# Altium footprint library rcl.PCBLIB: 487 footprints (part 25 of 31)
Each footprint in its own frame and in the unit in brackets; x right, y up, seen from the top. Pads: shape width x height; smd on the part's side, far side on the other; paste and mask are expansions set on the pad; w line width, h text height; cw(c..) or ccw(c..) is an arc to the next point about the centre after c.
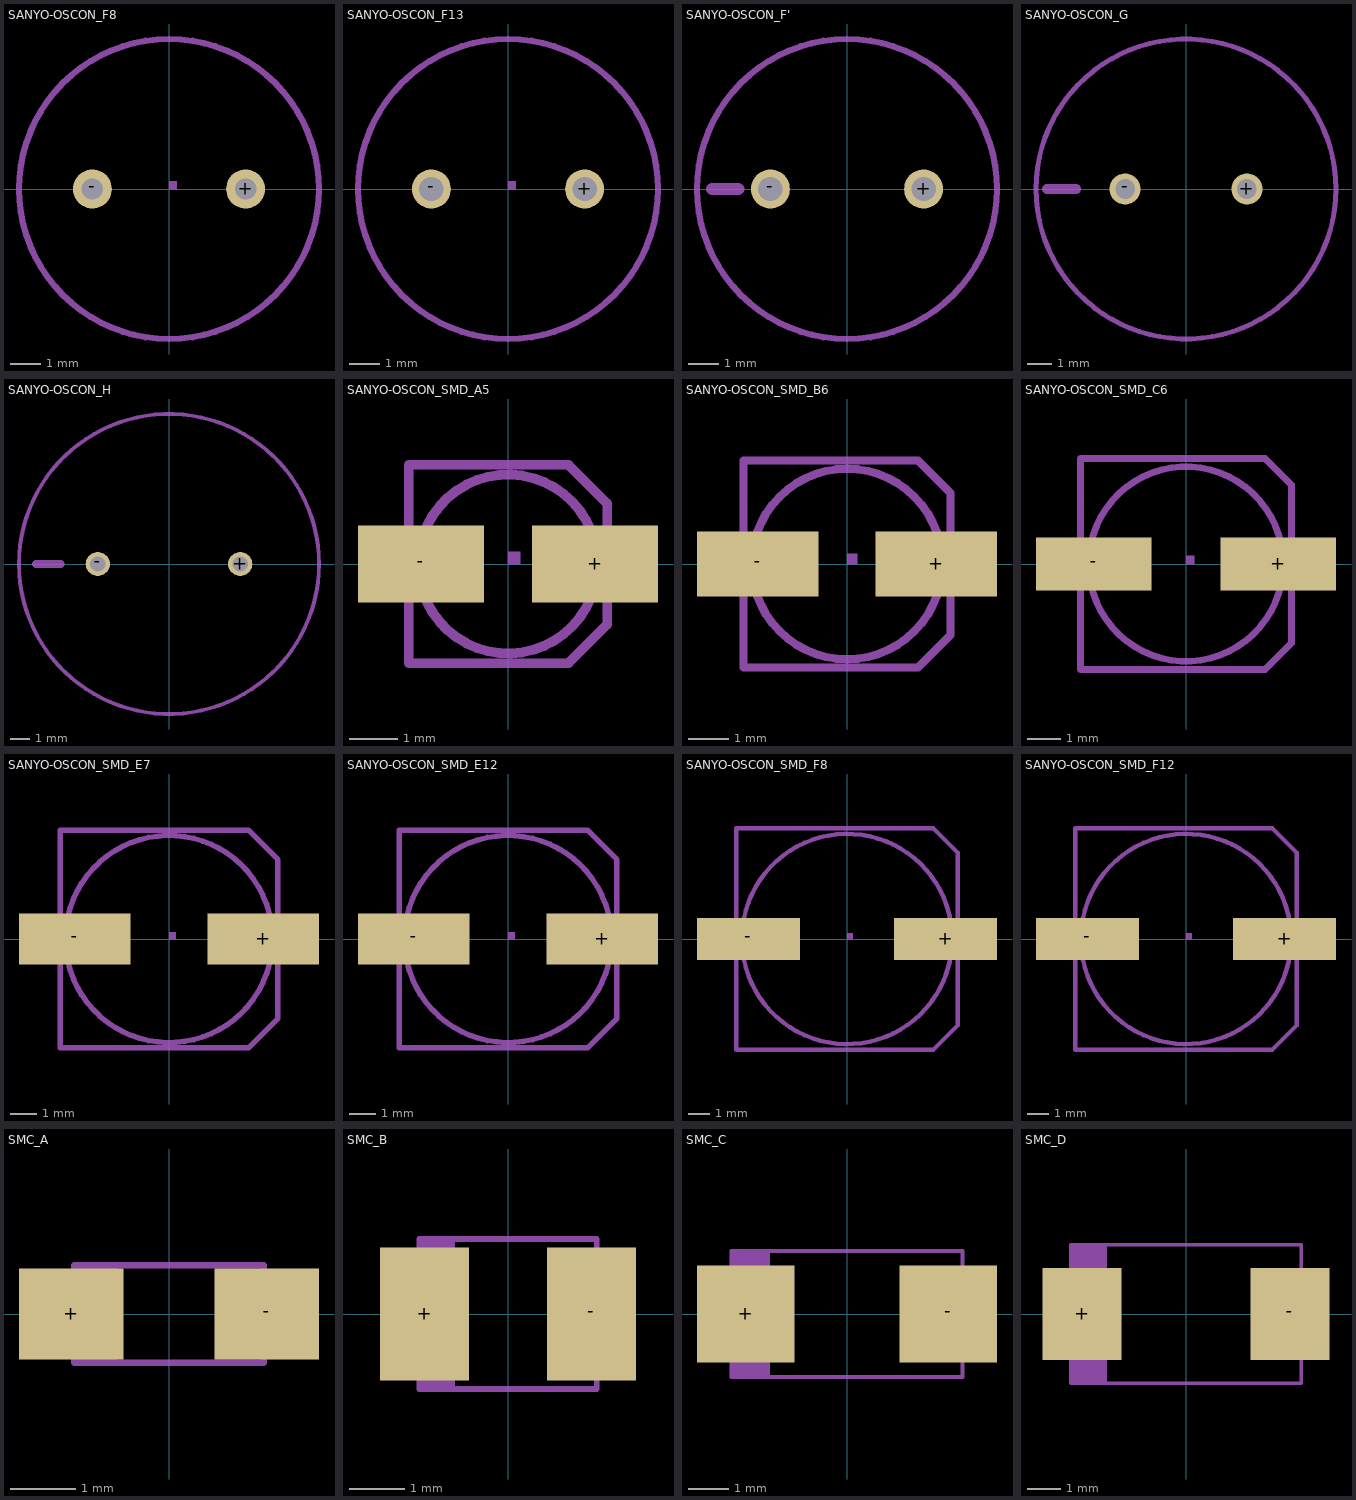
[diagram p24: the footprints below, top view; thin cyan lines are the x and y axes]

## SANYO-OSCON_F8 [mil]
pads (2):
  round 50 hole 27.56: +(98.43,0) -(-98.43,0)
Mechanical 2:
  circle w8: c0,0 r192.91
  region: 0,0 10,0 10,10 0,10

## SANYO-OSCON_F13 [mil]
pads (2):
  round 50 hole 31.5: +(98.43,0) -(-98.43,0)
Mechanical 2:
  circle w8: c0,0 r192.91
  region: 0,0 10,0 10,10 0,10

## SANYO-OSCON_F' [mil]
pads (2):
  round 50 hole 31.5: +(98.43,0) -(-98.43,0)
Mechanical 2:
  circle w8: c0,0 r192.92
  lines w16: -173.23,0 -139.76,0

## SANYO-OSCON_G [mil]
pads (2):
  round 50 hole 31.5: +(98.43,0) -(-98.43,0)
Mechanical 2:
  circle w8: c0,0 r242.13
  lines w16: -224.41,0 -177.17,0

## SANYO-OSCON_H [mil]
pads (2):
  round 50 hole 31.5: +(147.64,0) -(-147.64,0)
Mechanical 2:
  circle w8: c0,0 r311.03
  lines w16: -275.59,0 -224.41,0

## SANYO-OSCON_SMD_A5 [mil]
pads (2):
  rect 102.36x62.99 smd: +(70.87,0) -(-70.87,0)
Mechanical 2:
  lines w8: -80.71,-80.71 49.21,-80.71 80.71,-49.21 ; -80.71,80.71 49.21,80.71 80.71,49.21
Mechanical 18:
  circle w8: c0,0 r72.83
  region: 0,0 10,0 10,10 0,10
  lines w8: -80.71,-80.71 -80.71,80.71 ; 80.71,-49.21 80.71,49.21

## SANYO-OSCON_SMD_B6 [mm]
pads (2):
  rect 3x1.6 smd: +(2.2,0) -(-2.2,0)
Mechanical 2:
  lines w0.203: -2.55,-2.55 1.75,-2.55 2.55,-1.75 ; -2.55,2.55 1.75,2.55 2.55,1.75
Mechanical 18:
  circle w0.203: c0,0 r2.35
  region: 0,0 0.254,0 0.254,0.254 0,0.254
  lines w0.203: -2.55,-2.55 -2.55,2.55 ; 2.55,-1.75 2.55,1.75

## SANYO-OSCON_SMD_C6 [mil]
pads (2):
  rect 137.8x62.99 smd: +(110.24,0) -(-110.24,0)
Mechanical 2:
  lines w8: -125.98,-125.98 94.49,-125.98 125.98,-94.49 ; -125.98,125.98 94.49,125.98 125.98,94.49
Mechanical 18:
  circle w8: c0,0 r116.14
  region: 0,0 10,0 10,10 0,10
  lines w8: -125.98,-125.98 -125.98,125.98 ; 125.98,-94.49 125.98,94.49

## SANYO-OSCON_SMD_E7 [mil]
pads (2):
  rect 163.39x74.8 smd: +(137.8,0) -(-137.8,0)
Mechanical 2:
  lines w8: -159.45,-159.45 116.14,-159.45 159.45,-116.14 ; -159.45,159.45 116.14,159.45 159.45,116.14
Mechanical 18:
  circle w8: c0,0 r151.57
  region: 0,0 10,0 10,10 0,10
  lines w8: -159.45,-159.45 -159.45,159.45 ; 159.45,-116.14 159.45,116.14

## SANYO-OSCON_SMD_E12 [mil]
pads (2):
  rect 163.39x74.8 smd: +(137.8,0) -(-137.8,0)
Mechanical 2:
  lines w8: -159.45,-159.45 116.14,-159.45 159.45,-116.14 ; -159.45,159.45 116.14,159.45 159.45,116.14
Mechanical 18:
  circle w8: c0,0 r151.57
  region: 0,0 10,0 10,10 0,10
  lines w8: -159.45,-159.45 -159.45,159.45 ; 159.45,-116.14 159.45,116.14

## SANYO-OSCON_SMD_F8 [mm]
pads (2):
  rect 4.7x1.9 smd: +(4.5,0) -(-4.5,0)
Mechanical 2:
  lines w0.203: -5.05,-5.05 3.95,-5.05 5.05,-3.95 ; -5.05,5.05 3.95,5.05 5.05,3.95
Mechanical 18:
  circle w0.203: c0,0 r4.8
  region: 0,0 0.254,0 0.254,0.254 0,0.254
  lines w0.203: -5.05,-5.05 -5.05,5.05 ; 5.05,-3.95 5.05,3.95

## SANYO-OSCON_SMD_F12 [mm]
pads (2):
  rect 4.7x1.9 smd: +(4.5,0) -(-4.5,0)
Mechanical 2:
  lines w0.203: -5.05,-5.05 3.95,-5.05 5.05,-3.95 ; -5.05,5.05 3.95,5.05 5.05,3.95
Mechanical 18:
  circle w0.203: c0,0 r4.8
  region: 0,0 0.254,0 0.254,0.254 0,0.254
  lines w0.203: -5.05,-5.05 -5.05,5.05 ; 5.05,-3.95 5.05,3.95

## SMC_A [mil]
pads (2):
  rect 62.99x55.12 smd: +(-59.06,0) -(59.06,0)
Mechanical 18:
  rectangle: -62.99,-23.62 -55.12,23.62
  region: 62.99,23.62 55.12,23.62 55.12,-23.62 62.99,-23.62
  rectangle: -57.09,-29.53 -31.5,29.53
  lines w4: -57.09,-29.53 57.09,-29.53 57.09,29.53 -57.09,29.53 -57.09,-29.53

## SMC_B [mil]
pads (2):
  rect 62.99x94.49 smd: +(-59.06,0) -(59.06,0)
Mechanical 18:
  rectangle: -68.9,-43.31 -61.02,43.31
  region: 68.9,43.31 61.02,43.31 61.02,-43.31 68.9,-43.31
  rectangle: -62.99,-53.15 -37.4,53.15
  lines w4: -62.99,-53.15 62.99,-53.15 62.99,53.15 -62.99,53.15 -62.99,-53.15

## SMC_C [mil]
pads (2):
  rect 94.49x94.49 smd: +(-98.43,0) -(98.43,0)
Mechanical 18:
  rectangle: -118.11,-43.31 -110.24,43.31
  region: 118.11,43.31 110.24,43.31 110.24,-43.31 118.11,-43.31
  rectangle: -112.2,-61.02 -74.8,61.02
  lines w4: -112.2,-61.02 112.2,-61.02 112.2,61.02 -112.2,61.02 -112.2,-61.02

## SMC_D [mil]
pads (2):
  rect 94.49x110.24 smd: +(-124.02,0) -(124.02,0)
Mechanical 18:
  rectangle: -143.7,-47.24 -135.83,47.24
  region: 143.7,47.24 135.83,47.24 135.83,-47.24 143.7,-47.24
  rectangle: -137.8,-82.68 -94.49,82.68
  lines w4: -137.8,-82.68 137.8,-82.68 137.8,82.68 -137.8,82.68 -137.8,-82.68